# Altium schematic symbol library FlatBoards.SchLib: 17 symbols
Pins are listed as number, name and electrical type; pins without a type are passive.

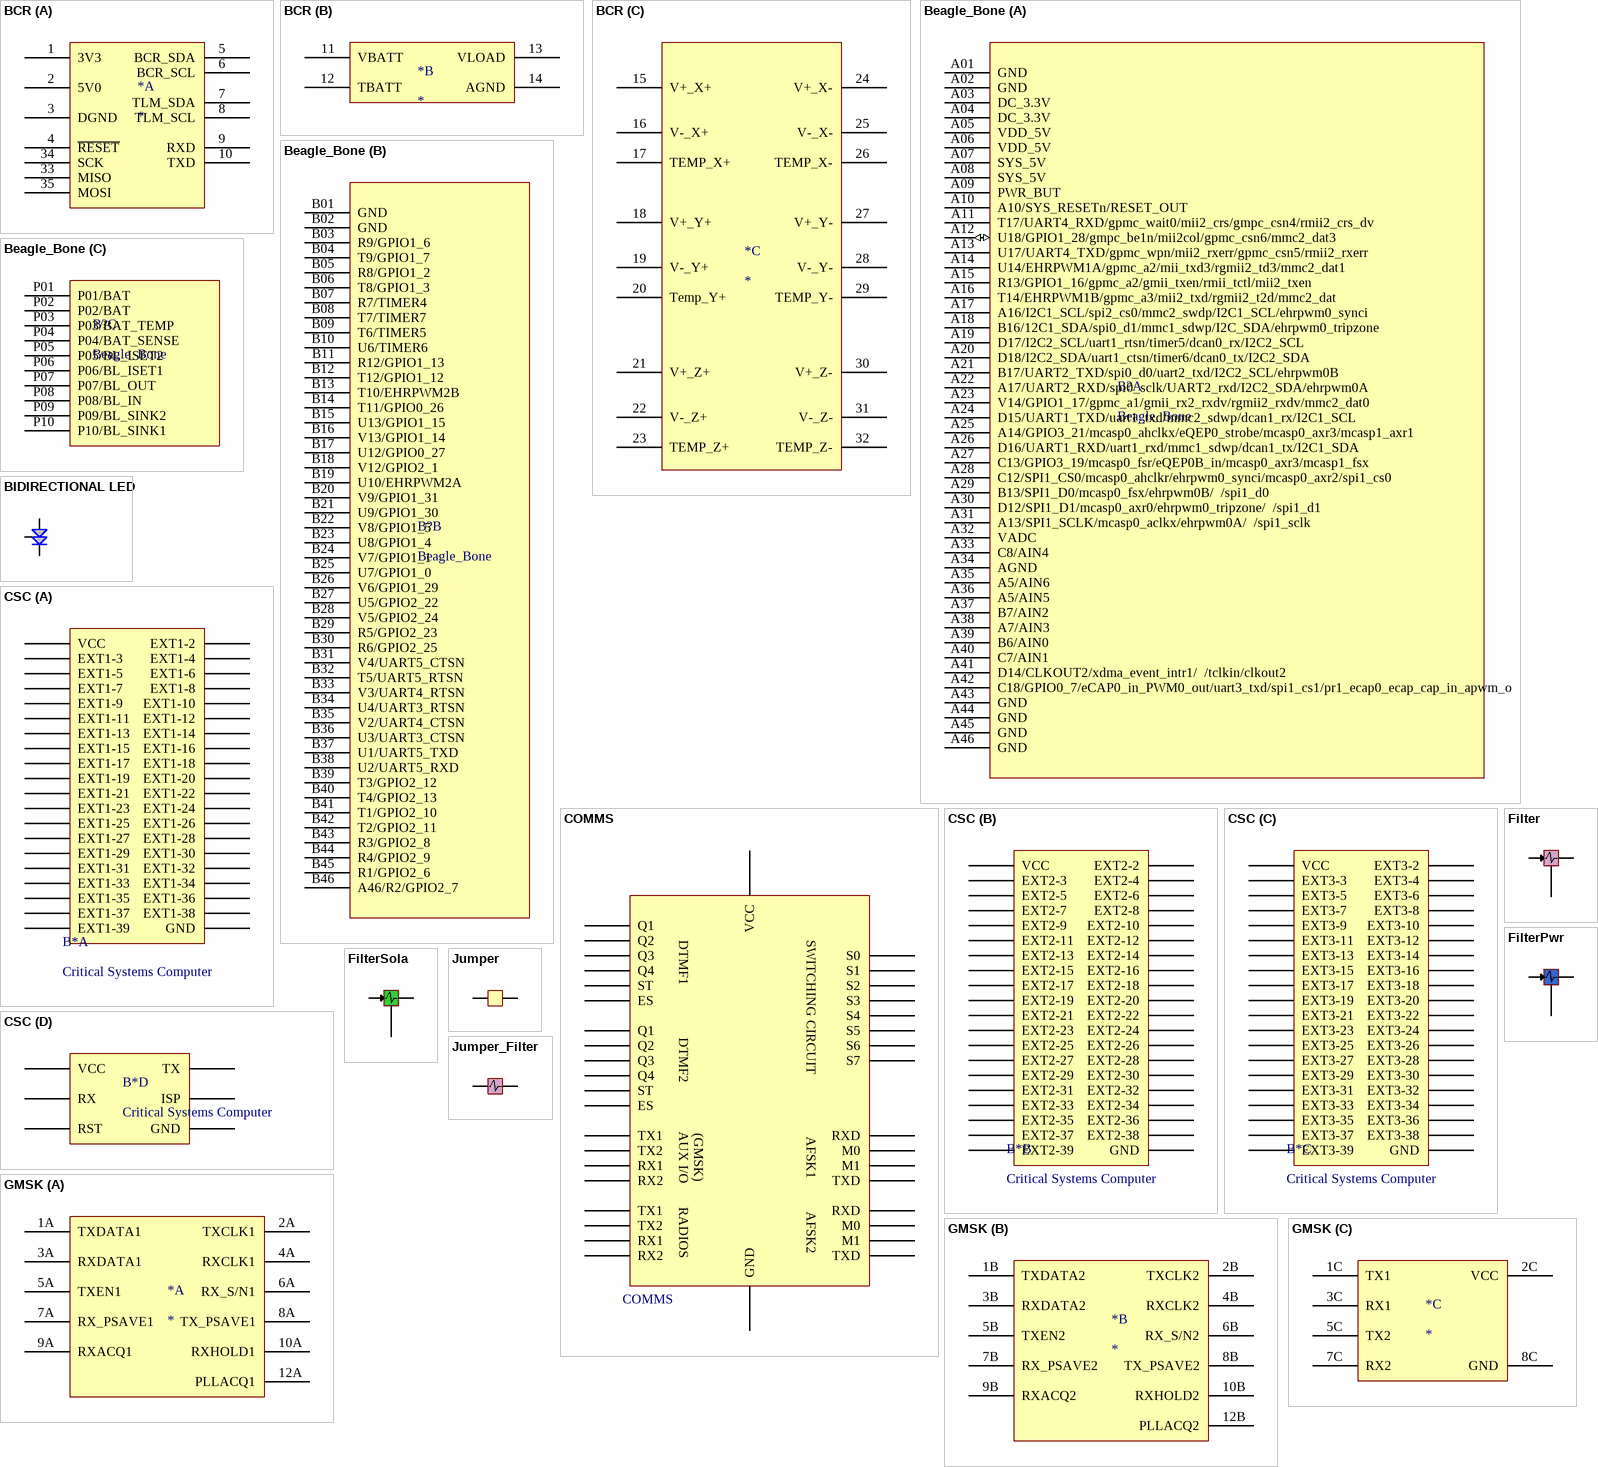
[diagram p0: symbols BCR to Jumper_Filter]

## BCR
designator *
footprint BCR_FLATSAT_BOARD
part A pins: 1 3V3, 2 5V0, 3 DGND, 4 ~{RESET}, 5 BCR_SDA, 6 BCR_SCL, 7 TLM_SDA, 8 TLM_SCL, 9 RXD, 10 TXD, 33 MISO, 34 SCK, 35 MOSI
part B pins: 11 VBATT, 12 TBATT, 13 VLOAD, 14 AGND
part C pins: 15 V+_X+, 16 V-_X+, 17 TEMP_X+, 18 V+_Y+, 19 V-_Y+, 20 Temp_Y+, 21 V+_Z+, 22 V-_Z+, 23 TEMP_Z+, 24 V+_X-, 25 V-_X-, 26 TEMP_X-, 27 V+_Y-, 28 V-_Y-, 29 TEMP_Y-, 30 V+_Z-, 31 V-_Z-, 32 TEMP_Z-

## Beagle_Bone
designator B?
footprint Beaglebone
part A pins: A01 GND, A02 GND, A03 DC_3.3V, A04 DC_3.3V, A05 VDD_5V, A06 VDD_5V, A07 SYS_5V, A08 SYS_5V, A09 PWR_BUT, A10 A10/SYS_RESETn/RESET_OUT, A11 T17/UART4_RXD/gpmc_wait0/mii2_crs/gmpc_csn4/rmii2_crs_dv, A12 U18/GPIO1_28/gmpc_be1n/mii2col/gpmc_csn6/mmc2_dat3 (io), A13 U17/UART4_TXD/gpmc_wpn/mii2_rxerr/gpmc_csn5/rmii2_rxerr, A14 U14/EHRPWM1A/gpmc_a2/mii_txd3/rgmii2_td3/mmc2_dat1, A15 R13/GPIO1_16/gpmc_a2/gmii_txen/rmii_tctl/mii2_txen, A16 T14/EHRPWM1B/gpmc_a3/mii2_txd/rgmii2_t2d/mmc2_dat, A17 A16/I2C1_SCL/spi2_cs0/mmc2_swdp/I2C1_SCL/ehrpwm0_synci, A18 B16/12C1_SDA/spi0_d1/mmc1_sdwp/I2C_SDA/ehrpwm0_tripzone, A19 D17/I2C2_SCL/uart1_rtsn/timer5/dcan0_rx/I2C2_SCL, A20 D18/I2C2_SDA/uart1_ctsn/timer6/dcan0_tx/I2C2_SDA, A21 B17/UART2_TXD/spi0_d0/uart2_txd/I2C2_SCL/ehrpwm0B, A22 A17/UART2_RXD/spi0_sclk/UART2_rxd/I2C2_SDA/ehrpwm0A, A23 V14/GPIO1_17/gpmc_a1/gmii_rx2_rxdv/rgmii2_rxdv/mmc2_dat0, A24 D15/UART1_TXD/uart1_txd/mmc2_sdwp/dcan1_rx/I2C1_SCL, A25 A14/GPIO3_21/mcasp0_ahclkx/eQEP0_strobe/mcasp0_axr3/mcasp1_axr1, A26 D16/UART1_RXD/uart1_rxd/mmc1_sdwp/dcan1_tx/I2C1_SDA, A27 C13/GPIO3_19/mcasp0_fsr/eQEP0B_in/mcasp0_axr3/mcasp1_fsx, A28 C12/SPI1_CS0/mcasp0_ahclkr/ehrpwm0_synci/mcasp0_axr2/spi1_cs0, A29 B13/SPI1_D0/mcasp0_fsx/ehrpwm0B/  /spi1_d0, A30 D12/SPI1_D1/mcasp0_axr0/ehrpwm0_tripzone/  /spi1_d1, A31 A13/SPI1_SCLK/mcasp0_aclkx/ehrpwm0A/  /spi1_sclk, A32 VADC, A33 C8/AIN4, A34 AGND, A35 A5/AIN6, A36 A5/AIN5, A37 B7/AIN2, A38 A7/AIN3, A39 B6/AIN0, A40 C7/AIN1, A41 D14/CLKOUT2/xdma_event_intr1/  /tclkin/clkout2, A42 C18/GPIO0_7/eCAP0_in_PWM0_out/uart3_txd/spi1_cs1/pr1_ecap0_ecap_cap_in_apwm_o, A43 GND, A44 GND, A45 GND, A46 GND
part B pins: B01 GND, B02 GND, B03 R9/GPIO1_6, B04 T9/GPIO1_7, B05 R8/GPIO1_2, B06 T8/GPIO1_3, B07 R7/TIMER4, B08 T7/TIMER7, B09 T6/TIMER5, B10 U6/TIMER6, B11 R12/GPIO1_13, B12 T12/GPIO1_12, B13 T10/EHRPWM2B, B14 T11/GPIO0_26, B15 U13/GPIO1_15, B16 V13/GPIO1_14, B17 U12/GPIO0_27, B18 V12/GPIO2_1, B19 U10/EHRPWM2A, B20 V9/GPIO1_31, B21 U9/GPIO1_30, B22 V8/GPIO1_5, B23 U8/GPIO1_4, B24 V7/GPIO1_1, B25 U7/GPIO1_0, B26 V6/GPIO1_29, B27 U5/GPIO2_22, B28 V5/GPIO2_24, B29 R5/GPIO2_23, B30 R6/GPIO2_25, B31 V4/UART5_CTSN, B32 T5/UART5_RTSN, B33 V3/UART4_RTSN, B34 U4/UART3_RTSN, B35 V2/UART4_CTSN, B36 U3/UART3_CTSN, B37 U1/UART5_TXD, B38 U2/UART5_RXD, B39 T3/GPIO2_12, B40 T4/GPIO2_13, B41 T1/GPIO2_10, B42 T2/GPIO2_11, B43 R3/GPIO2_8, B44 R4/GPIO2_9, B45 R1/GPIO2_6, B46 A46/R2/GPIO2_7
part C pins: P01 P01/BAT, P02 P02/BAT, P03 P03/BAT_TEMP, P04 P04/BAT_SENSE, P05 P05/BL_ISET2, P06 P06/BL_ISET1, P07 P07/BL_OUT, P08 P08/BL_IN, P09 P09/BL_SINK2, P10 P10/BL_SINK1

## BIDIRECTIONAL LED
designator LED?  (value not drawn)
pins: 1 GND, 2 RES, 3 VCC

## COMMS
designator B*
footprint Communications
pins: AFSK1_M0 M0, AFSK1_M1 M1, AFSK1_RXD RXD, AFSK1_TXD TXD, AFSK2_M0 M0, AFSK2_M1 M1, AFSK2_RXD RXD, AFSK2_TXD TXD, DTMF1_ES ES, DTMF1_Q1 Q1, DTMF1_Q2 Q2, DTMF1_Q3 Q3, DTMF1_Q4 Q4, DTMF1_ST ST, DTMF2_ES ES, DTMF2_Q1 Q1, DTMF2_Q2 Q2, DTMF2_Q3 Q3, DTMF2_Q4 Q4, DTMF2_ST ST, GMSK_RX1 RX1, GMSK_RX2 RX2, GMSK_TX1 TX1, GMSK_TX2 TX2, GND, RX1, RX2, S0, S1, S2, S3, S4, S5, S6, S7, TX1, TX2, VCC
text: DTMF1; SWITCHING CIRCUIT; DTMF2; AUX I/O; (GMSK); AFSK1; RADIOS; AFSK2

## CSC
designator B*, comment Critical Systems Computer
footprint CSC (Critical Systems Computer)
part A pins: C1_1 VCC, C1_2 EXT1-2, C1_3 EXT1-3, C1_4 EXT1-4, C1_5 EXT1-5, C1_6 EXT1-6, C1_7 EXT1-7, C1_8 EXT1-8, C1_9 EXT1-9, C1_10 EXT1-10, C1_11 EXT1-11, C1_12 EXT1-12, C1_13 EXT1-13, C1_14 EXT1-14, C1_15 EXT1-15, C1_16 EXT1-16, C1_17 EXT1-17, C1_18 EXT1-18, C1_19 EXT1-19, C1_20 EXT1-20, C1_21 EXT1-21, C1_22 EXT1-22, C1_23 EXT1-23, C1_24 EXT1-24, C1_25 EXT1-25, C1_26 EXT1-26, C1_27 EXT1-27, C1_28 EXT1-28, C1_29 EXT1-29, C1_30 EXT1-30, C1_31 EXT1-31, C1_32 EXT1-32, C1_33 EXT1-33, C1_34 EXT1-34, C1_35 EXT1-35, C1_36 EXT1-36, C1_37 EXT1-37, C1_38 EXT1-38, C1_39 EXT1-39, C1_40 GND
part B pins: C2_1 VCC, C2_2 EXT2-2, C2_3 EXT2-3, C2_4 EXT2-4, C2_5 EXT2-5, C2_6 EXT2-6, C2_7 EXT2-7, C2_8 EXT2-8, C2_9 EXT2-9, C2_10 EXT2-10, C2_11 EXT2-11, C2_12 EXT2-12, C2_13 EXT2-13, C2_14 EXT2-14, C2_15 EXT2-15, C2_16 EXT2-16, C2_17 EXT2-17, C2_18 EXT2-18, C2_19 EXT2-19, C2_20 EXT2-20, C2_21 EXT2-21, C2_22 EXT2-22, C2_23 EXT2-23, C2_24 EXT2-24, C2_25 EXT2-25, C2_26 EXT2-26, C2_27 EXT2-27, C2_28 EXT2-28, C2_29 EXT2-29, C2_30 EXT2-30, C2_31 EXT2-31, C2_32 EXT2-32, C2_33 EXT2-33, C2_34 EXT2-34, C2_35 EXT2-35, C2_36 EXT2-36, C2_37 EXT2-37, C2_38 EXT2-38, C2_39 EXT2-39, C2_40 GND
part C pins: C3_1 VCC, C3_2 EXT3-2, C3_3 EXT3-3, C3_4 EXT3-4, C3_5 EXT3-5, C3_6 EXT3-6, C3_7 EXT3-7, C3_8 EXT3-8, C3_9 EXT3-9, C3_10 EXT3-10, C3_11 EXT3-11, C3_12 EXT3-12, C3_13 EXT3-13, C3_14 EXT3-14, C3_15 EXT3-15, C3_16 EXT3-16, C3_17 EXT3-17, C3_18 EXT3-18, C3_19 EXT3-19, C3_20 EXT3-20, C3_21 EXT3-21, C3_22 EXT3-22, C3_23 EXT3-23, C3_24 EXT3-24, C3_25 EXT3-25, C3_26 EXT3-26, C3_27 EXT3-27, C3_28 EXT3-28, C3_29 EXT3-29, C3_30 EXT3-30, C3_31 EXT3-31, C3_32 EXT3-32, C3_33 EXT3-33, C3_34 EXT3-34, C3_35 EXT3-35, C3_36 EXT3-36, C3_37 EXT3-37, C3_38 EXT3-38, C3_39 EXT3-39, C3_40 GND
part D pins: ISP1 VCC, ISP2 RX, ISP3 RST, ISP4 TX, ISP5 ISP, ISP6 GND

## Filter
designator F?  (value not drawn)
footprint Filter
pins: 1, 2, 3

## FilterPwr
designator F?  (value not drawn)
footprint FILTERPWR
pins: 1, 2, 3

## FilterSola
designator F?  (value not drawn)
footprint FILTERSOLA
pins: 1, 2, 3

## GMSK
designator *
footprint GMSK (Foot print of GMSK for the flatsat board)
part A pins: 1A TXDATA1, 2A TXCLK1, 3A RXDATA1, 4A RXCLK1, 5A TXEN1, 6A RX_S/N1, 7A RX_PSAVE1, 8A TX_PSAVE1, 9A RXACQ1, 10A RXHOLD1, 12A PLLACQ1
part B pins: 1B TXDATA2, 2B TXCLK2, 3B RXDATA2, 4B RXCLK2, 5B TXEN2, 6B RX_S/N2, 7B RX_PSAVE2, 8B TX_PSAVE2, 9B RXACQ2, 10B RXHOLD2, 12B PLLACQ2
part C pins: 1C TX1, 2C VCC, 3C RX1, 5C TX2, 7C RX2, 8C GND

## Jumper
designator J*  (value not drawn)
footprint Jumper (Connector; Header; 2 Position)
pins: 1, 2

## Jumper_Filter
designator P?  (value not drawn)
footprint Jumper_filter (Connector; Header; 2 Position)
pins: 1, 2, 3 hidden to GND

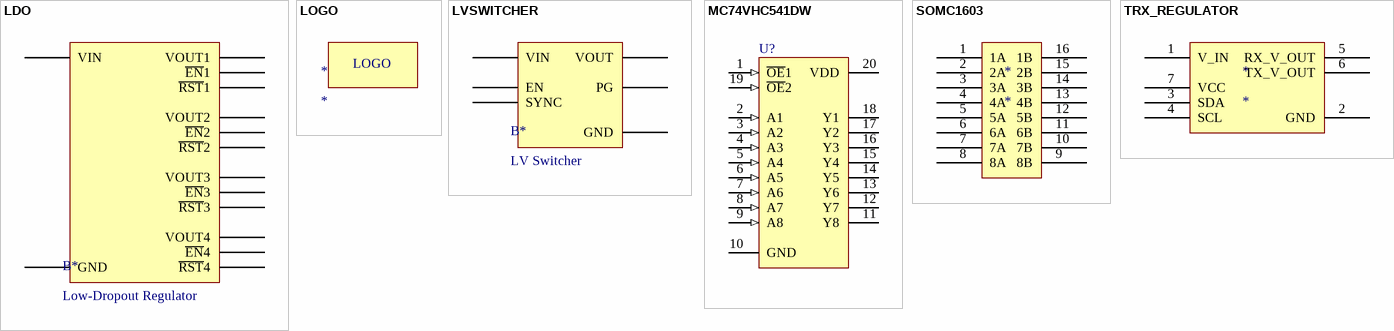
[diagram p1: symbols LDO to TRX_REGULATOR]

## LDO
designator B*, comment Low-Dropout Regulator
footprint LDO (Low-dropout Regulator)
pins: EN1 ~{EN}1, EN2 ~{EN}2, EN3 ~{EN}3, EN4 ~{EN}4, GND, RST1 ~{RST}1, RST2 ~{RST}2, RST3 ~{RST}3, RST4 ~{RST}4, VIN, VOUT1, VOUT2, VOUT3, VOUT4

## LOGO
designator *
footprint LOGO

## LVSWITCHER
designator B*, comment LV Switcher
footprint LVSwitcher (Low-Voltage Switching Regulator)
pins: EN, GND, PG, SYNC, Vin VIN, Vout VOUT

## MC74VHC541DW
designator U?
Octal Bus Buffer; Published: 15-Apr-2002; LatestRevisionDate: 13-Apr-2006; LatestRevisionNote: IPC-7351 Footprint Added.; DatasheetVersion: 1998; PackageReference: 751D-04; Publisher: Altium Limited; PackageDescription: 20-Pin Small Outline Integrated Circuit 1.27 mm Pitch; ComponentLink1Description: Manufacturer Link; ComponentLink1URL: http://www.onsemi.com/; ComponentLink2Description: Datasheet; ComponentLink2URL: http://www.onsemi.com/pub/Collateral/MC74VHC541-D.PDF
footprint 751D-04_N (SOIC, 20-Leads, Body 12.8x7.5mm, Pitch 1.27mm, IPC Medium Density)
footprint 751D-04_L (SOIC, 20-Leads, Body 12.8x7.5mm, Pitch 1.27mm, IPC High Density)
footprint 751D-04_M (SOIC, 20-Leads, Body 12.8x7.5mm, Pitch 1.27mm, IPC Low Density)
pins: 1 ~{OE}1 (in), 2 A1 (in), 3 A2 (in), 4 A3 (in), 5 A4 (in), 6 A5 (in), 7 A6 (in), 8 A7 (in), 9 A8 (in), 10 GND (power), 11 Y8 (hiz), 12 Y7 (hiz), 13 Y6 (hiz), 14 Y5 (hiz), 15 Y4 (hiz), 16 Y3 (hiz), 17 Y2 (hiz), 18 Y1 (hiz), 19 ~{OE}2 (in), 20 VDD (power)

## SOMC1603
designator *
pins: 1 1A, 2 2A, 3 3A, 4 4A, 5 5A, 6 6A, 7 7A, 8 8A, 9 8B, 10 7B, 11 6B, 12 5B, 13 4B, 14 3B, 15 2B, 16 1B

## TRX_REGULATOR
designator *
footprint TRX_REGULATOR
pins: 1 V_IN, 2 GND, 3 SDA, 4 SCL, 5 RX_V_OUT, 6 TX_V_OUT, 7 VCC